# EAGLE library part FIO_SOCKET (library open_hw_sockets)
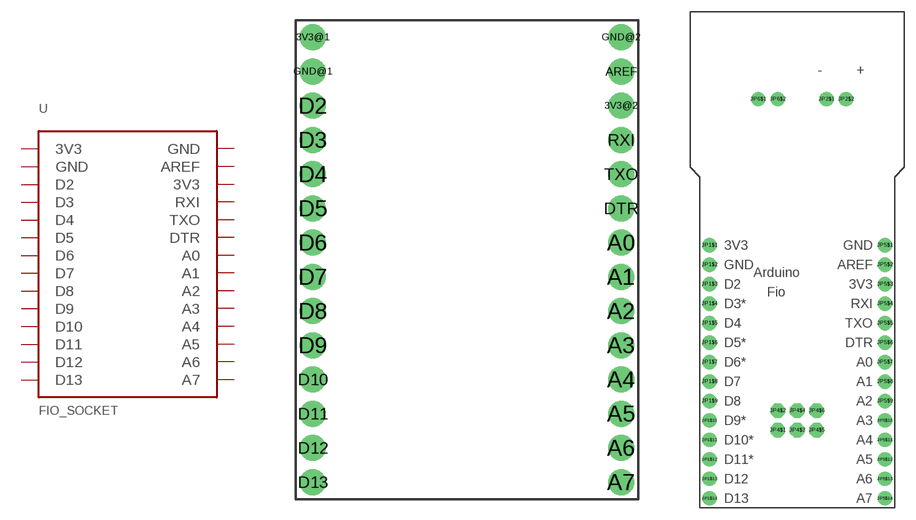
[diagram p2: symbol with the pads of FIO_SOCKET; footprints FIO_SOCKET, TEST_FIO]

Designator prefix -

## FIO_SOCKET  [FIO_SOCKET]
3V3@1  3V3  pwr
3V3@2  3V3  pwr
A0  A0
A1  A1
A2  A2
A3  A3
A4  A4
A5  A5
A6  A6
A7  A7
AREF  AREF  out
D2  D2
D3  D3
D4  D4
D5  D5
D6  D6
D7  D7
D8  D8
D9  D9
D10  D10
D11  D11
D12  D12
D13  D13
DTR  DTR  in
GND@1  GND  pwr
GND@2  GND  pwr
RXI  RXI  in
TXO  TXO  out

## FIO_SOCKETTEST  [TEST_FIO]
JP1$1  3V3  pwr
JP1$2  GND  pwr
JP1$3  D2
JP1$4  D3
JP1$5  D4
JP1$6  D5
JP1$7  D6
JP1$8  D7
JP1$9  D8
JP1$10  D9
JP1$11  D10
JP1$12  D11
JP1$13  D12
JP1$14  D13
JP5$1  GND  pwr
JP5$2  AREF  out
JP5$3  3V3  pwr
JP5$4  RXI  in
JP5$5  TXO  out
JP5$6  DTR  in
JP5$7  A0
JP5$8  A1
JP5$9  A2
JP5$10  A3
JP5$11  A4
JP5$12  A5
JP5$13  A6
JP5$14  A7

## Footprint FIO_SOCKET (pad centres in mm)
drill 1 pad 1.93: 3V3@1 -11.43,16.51; 3V3@2 11.43,11.43; A0 11.43,1.27; A1 11.43,-1.27; A2 11.43,-3.81; A3 11.43,-6.35; A4 11.43,-8.89; A5 11.43,-11.43; A6 11.43,-13.97; A7 11.43,-16.51; AREF 11.43,13.97; D2 -11.43,11.43; D3 -11.43,8.89; D4 -11.43,6.35; D5 -11.43,3.81; D6 -11.43,1.27; D7 -11.43,-1.27; D8 -11.43,-3.81; D9 -11.43,-6.35; D10 -11.43,-8.89; D11 -11.43,-11.43; D12 -11.43,-13.97; D13 -11.43,-16.51; DTR 11.43,3.81; GND@1 -11.43,13.97; GND@2 11.43,16.51; RXI 11.43,8.89; TXO 11.43,6.35

## Footprint TEST_FIO (pad centres in mm)
drill 0.8 pad 1.88: JP1$1 1.27,34.29; JP1$2 1.27,31.75; JP1$3 1.27,29.21; JP1$4 1.27,26.67; JP1$5 1.27,24.13; JP1$6 1.27,21.59; JP1$7 1.27,19.05; JP1$8 1.27,16.51; JP1$9 1.27,13.97; JP1$10 1.27,11.43; JP1$11 1.27,8.89; JP1$12 1.27,6.35; JP1$13 1.27,3.81; JP1$14 1.27,1.27; JP2$1 16.51,53.34; JP2$2 19.05,53.34; JP5$1 24.13,34.29; JP5$2 24.13,31.75; JP5$3 24.13,29.21; JP5$4 24.13,26.67; JP5$5 24.13,24.13; JP5$6 24.13,21.59; JP5$7 24.13,19.05; JP5$8 24.13,16.51; JP5$9 24.13,13.97; JP5$10 24.13,11.43; JP5$11 24.13,8.89; JP5$12 24.13,6.35; JP5$13 24.13,3.81; JP5$14 24.13,1.27; JP6$1 7.62,53.34; JP6$2 10.16,53.34
drill 0.8 pad 1.88 octagon: JP4$1 10.16,10.16; JP4$2 10.16,12.7; JP4$3 12.7,10.16; JP4$4 12.7,12.7; JP4$5 15.24,10.16; JP4$6 15.24,12.7